# Altium footprint library SMD_cap_12,5x13,5.PcbLib: 1 footprints
Each footprint in its own frame and in the unit in brackets; x right, y up, seen from the top. Pads: shape width x height; smd on the part's side, far side on the other; paste and mask are expansions set on the pad; w line width, h text height; cw(c..) or ccw(c..) is an arc to the next point about the centre after c.
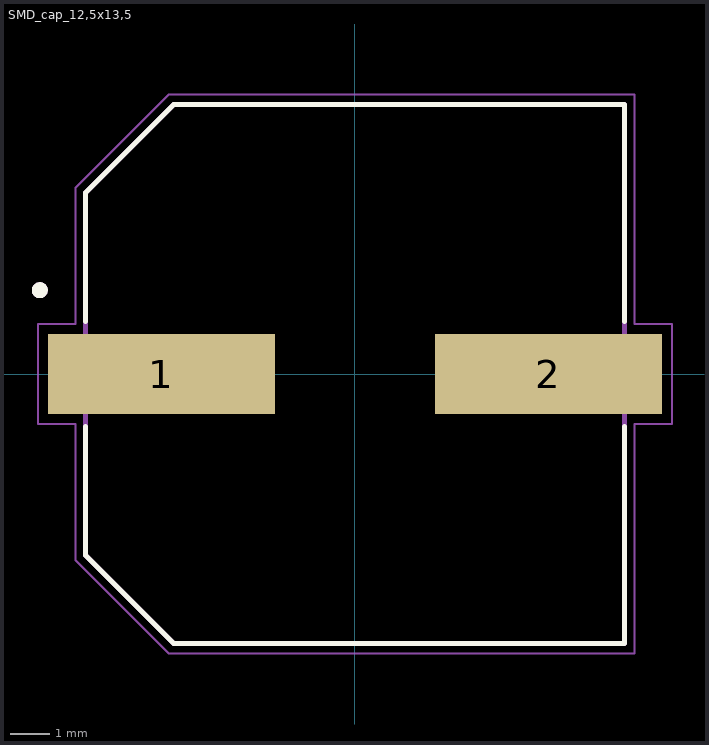
[diagram p0: the footprint, top view; thin cyan lines are the x and y axes]

## SMD_cap_12,5x13,5 [mm]
pads (2):
  rect 5.7x2 smd: 1(-4.85,0) 2(4.85,0)
Top Overlay:
  circle w0.2: c-7.9,2.1 r0.1
  lines w0.127: -6.75,-1.32 -6.75,-4.55 -4.55,-6.75 6.75,-6.75 6.75,-1.32 ; -6.75,1.32 -6.75,4.55 -4.55,6.75 6.75,6.75 6.75,1.32
Mechanical 13:
  circle w0.2: c-7.9,2.1 r0.1
  lines w0.127: -6.75,-4.55 -4.55,-6.75 6.75,-6.75 6.75,6.75 -4.55,6.75 -6.75,4.55 -6.75,-4.55
Mechanical 15:
  lines w0.05: -7.95,-1.25 -7.95,1.25 -7,1.25 -7,4.675 -4.675,7 7,7 7,1.25 7.95,1.25 7.95,-1.25 7,-1.25 7,-7 -4.675,-7 -7,-4.675 -7,-1.25 -7.95,-1.25
3D body "EEVFK1E102Q.STEP": height 13.5, standoff 0, extent -7.45,-6.75 7.45,6.75
3D body "step_temp.STEP": height 0, standoff 0, extent 0,0 0,0